# Altium schematic symbol library Schlib1.SchLib: 7 symbols
Pins are listed as number, name and electrical type; pins without a type are passive.

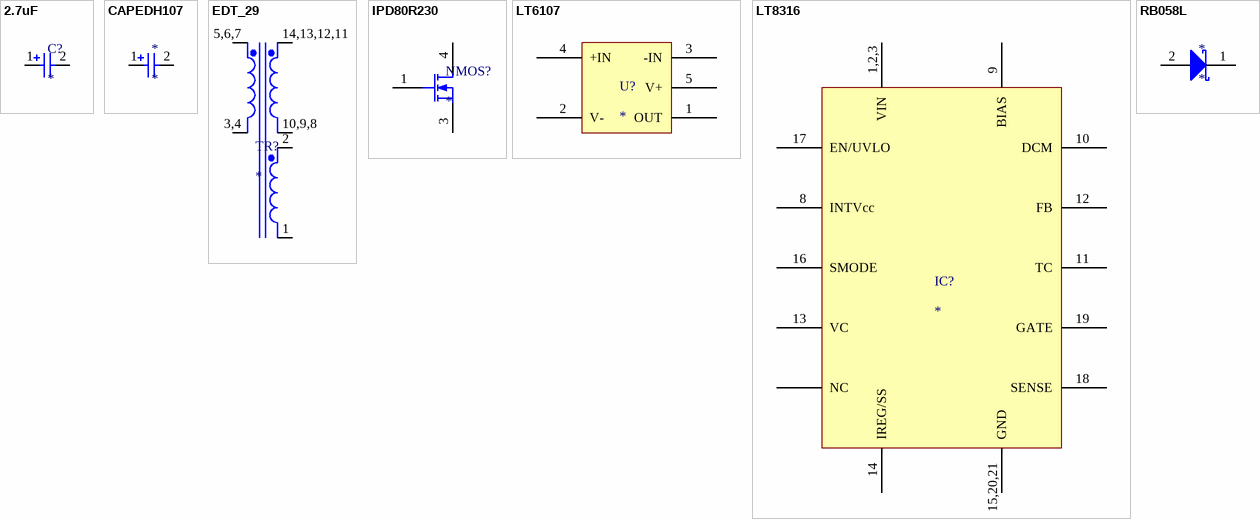
[diagram p0: symbols 2.7uF to RB058L]

## 2.7uF
designator C?
footprint CAPAE127P600-8N
pins: 1 Cap+, 2 CAP-

## CAPEDH107
designator *
footprint CAPAEDH107M016A9G (Aluminum Electrolytic Capacitor, Body 6,60x6,60x6,30mm, IPC Low Density)
pins: 1 Cap+, 2 CAP-

## EDT_29
designator TR?
Transformer
footprint PCBComponent_1
pins: 1 Sec2-, 2 Sec2+, 3,4 Pri-, 5,6,7 Pri+, 10,9,8 Sec1-, 14,13,12,11 Sec1+

## IPD80R230
designator NMOS?
Power Mosfet
footprint DPAK228P994X241-3N (D-PAK, 3-Pads, Body 6,21x6,72mm (max), IPC Medium Density)
pins: 1 G "Gate", 3 S "Source", 4 D "Drain"

## LT6107
designator U?
footprint SOT95P245X110-5N (SOT23, 5-Leads, Body 2,90x2,45mm, Pitch 0,95mm, IPC Medium Density)
pins: 1 OUT, 2 V-, 3 -IN, 4 +IN, 5 V+

## LT8316
designator IC?
LT8316
footprint TSOP65P640X120-20N (TSOP, 20-Leads, Body 6,50x4,40mm, Pitch 0,65mm, IPC Medium Density)
pins: 1,2,3 VIN "Voltage Supply", 4,5,6,7 NC "Not connect", 8 INTVcc "Internal Gate Driver Bias Voltage", 9 BIAS "Unregulated Input Voltage for the IC", 10 DCM "Discontinuous Conduction Mode Detector", 11 TC "Temperature Compensation Pin", 12 FB "Feedback", 13 VC "Loop Compensation", 14 IREG/SS "Regulation/soft-start pin", 15,20,21 GND "Ground", 16 SMODE "Standby Mode", 17 EN/UVLO "Enable/Undervoltage Lockout Pin", 18 SENSE "Sense", 19 GATE "Gate"

## RB058L
designator *
footprint RB058L (Molded Capacitor, 2-Leads, Body 4,50x2,60mm, IPC Medium Density)
pins: 1 K "Cathode", 2 A "Anode"